# EAGLE library part LM2673?-* (library SteMarie)
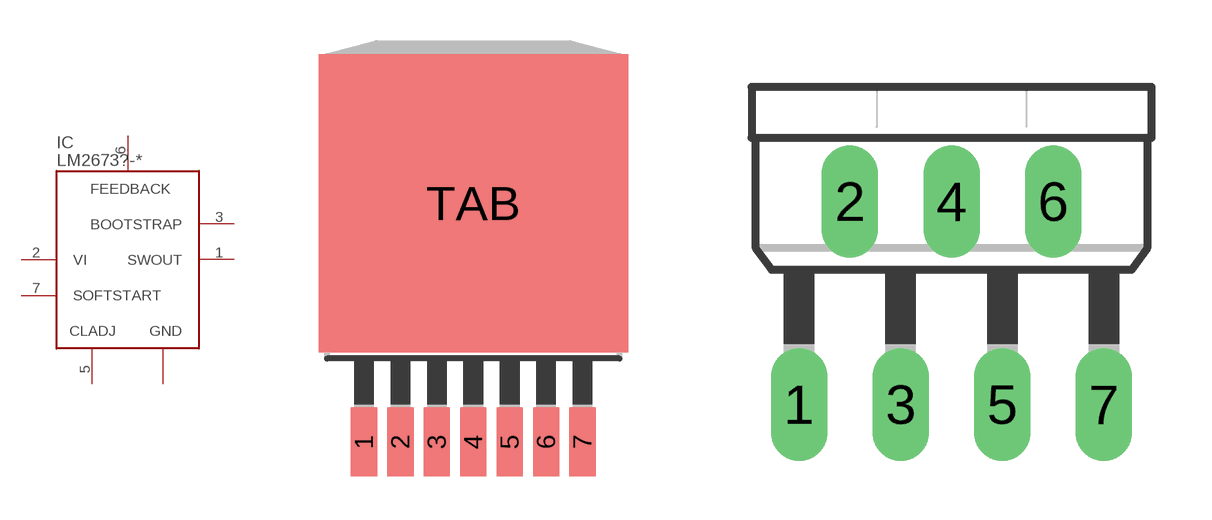
[diagram p6: symbol with the pads of TO263-7; footprints TO263-7, TO220-7]

Designator prefix IC

## LM2673S-12, LM2673S-3.3, LM2673S-5.0, LM2673S-ADJ  [TO263-7]
1  SWOUT  pas
2  VI  in
3  BOOTSTRAP  pas
4  GND  pwr
5  CLADJ  pas
6  FEEDBACK  in
7  SOFTSTART  pas

## LM2673T-12, LM2673T-3.3, LM2673T-5.0, LM2673T-ADJ  [TO220-7]
Pads as for TO263-7

## Footprint TO263-7 (pad centres in mm)
Modified TO-263 used by National for its "Simple Switcher" line of switching voltage regulators.
smd 0.914 x 2.413: 1 -3.81,-5.791; 2 -2.54,-5.791; 3 -1.27,-5.791; 4 0,-5.791; 5 1.27,-5.791; 6 2.54,-5.791; 7 3.81,-5.791
smd 10.795 x 10.414: TAB 0,2.54

## Footprint TO220-7 (pad centres in mm)
drill 0.9 long: 1 -3.81,-5.08; 2 -2.54,0; 3 -1.27,-5.08; 4 0,0; 5 1.27,-5.08; 6 2.54,0; 7 3.81,-5.08